# Altium schematic symbol library jlcpcb_resistors_basic.schlib: 256 symbols (part 2 of 5)
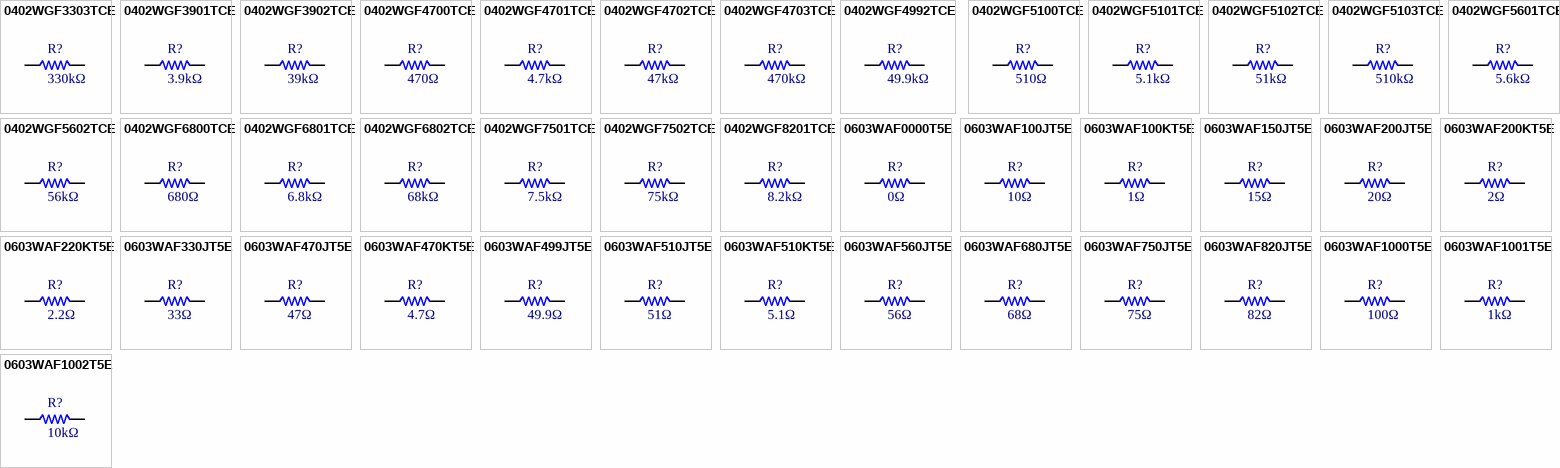
[diagram p7: symbols 0402WGF3303TCE to 0603WAF1002T5E]

## 0603WAF100JT5E
designator R?  Resistance: 10Ω  (hidden comment: *)
Resistor, 10Ω, ±1%, 100mW, 75V, ±400ppm/°C, -55°C to +155°C, SMD 0603; Manufacturer: Uniroyal; Manufacturer Part Number: 0603WAF100JT5E; Supplier 1: LCSC; Supplier Part Number 1: C22859; JLCPCB Part Number: C22859; Power Rating: 100mW; Category: Resistors; Package Size: 0603; JLCPCB Basic Part: Yes; Tolerance: ±1%; Voltage Rating: 75V; Temperature Coefficient: ±400ppm/°C; Temperature Rating: -55°C to +155°C; ComponentLink1Description: Datasheet; ComponentLink1URL: https://datasheet.lcsc.com/lcsc/2206010130_UNI-ROYAL-Uniroyal-Elec-0603WAF100JT5E_C22859.pdf; ComponentLink2Description: JLCPCB Part URL; ComponentLink2URL: https://jlcpcb.com/partdetail/23586-0603WAF100JT5E/C22859
footprint RES-0603 (0603 (1608M) Resistor)
pins: 1, 2

## 0603WAF100KT5E
designator R?  Resistance: 1Ω  (hidden comment: *)
Resistor, 1Ω, ±1%, 100mW, 75V, ±400ppm/°C, -55°C to +155°C, SMD 0603; Manufacturer: Uniroyal; Manufacturer Part Number: 0603WAF100KT5E; Supplier 1: LCSC; Supplier Part Number 1: C22936; JLCPCB Part Number: C22936; Power Rating: 100mW; Category: Resistors; Package Size: 0603; JLCPCB Basic Part: Yes; Tolerance: ±1%; Voltage Rating: 75V; Temperature Coefficient: ±400ppm/°C; Temperature Rating: -55°C to +155°C; ComponentLink1Description: Datasheet; ComponentLink1URL: https://datasheet.lcsc.com/lcsc/2206010130_UNI-ROYAL-Uniroyal-Elec-0603WAF100KT5E_C22936.pdf; ComponentLink2Description: JLCPCB Part URL; ComponentLink2URL: https://jlcpcb.com/partdetail/23663-0603WAF100KT5E/C22936
footprint RES-0603 (0603 (1608M) Resistor)
pins: 1, 2

## 0603WAF150JT5E
designator R?  Resistance: 15Ω  (hidden comment: *)
Resistor, 15Ω, ±1%, 100mW, 75V, ±100ppm/°C, -55°C to +155°C, SMD 0603; Manufacturer: Uniroyal; Manufacturer Part Number: 0603WAF150JT5E; Supplier 1: LCSC; Supplier Part Number 1: C22810; JLCPCB Part Number: C22810; Power Rating: 100mW; Category: Resistors; Package Size: 0603; JLCPCB Basic Part: Yes; Tolerance: ±1%; Voltage Rating: 75V; Temperature Coefficient: ±100ppm/°C; Temperature Rating: -55°C to +155°C; ComponentLink1Description: Datasheet; ComponentLink1URL: https://datasheet.lcsc.com/lcsc/2206010130_UNI-ROYAL-Uniroyal-Elec-0603WAF150JT5E_C22810.pdf; ComponentLink2Description: JLCPCB Part URL; ComponentLink2URL: https://jlcpcb.com/partdetail/23537-0603WAF150JT5E/C22810
footprint RES-0603 (0603 (1608M) Resistor)
pins: 1, 2

## 0603WAF200JT5E
designator R?  Resistance: 20Ω  (hidden comment: *)
Resistor, 20Ω, ±1%, 100mW, 75V, ±100ppm/°C, -55°C to +155°C, SMD 0603; Manufacturer: Uniroyal; Manufacturer Part Number: 0603WAF200JT5E; Supplier 1: LCSC; Supplier Part Number 1: C22950; JLCPCB Part Number: C22950; Power Rating: 100mW; Category: Resistors; Package Size: 0603; JLCPCB Basic Part: Yes; Tolerance: ±1%; Voltage Rating: 75V; Temperature Coefficient: ±100ppm/°C; Temperature Rating: -55°C to +155°C; ComponentLink1Description: Datasheet; ComponentLink1URL: https://datasheet.lcsc.com/lcsc/2206010130_UNI-ROYAL-Uniroyal-Elec-0603WAF200JT5E_C22950.pdf; ComponentLink2Description: JLCPCB Part URL; ComponentLink2URL: https://jlcpcb.com/partdetail/23677-0603WAF200JT5E/C22950
footprint RES-0603 (0603 (1608M) Resistor)
pins: 1, 2

## 0603WAF200KT5E
designator R?  Resistance: 2Ω  (hidden comment: *)
Resistor, 2Ω, ±1%, 100mW, 75V, ±400ppm/°C, -55°C to +155°C, SMD 0603; Manufacturer: Uniroyal; Manufacturer Part Number: 0603WAF200KT5E; Supplier 1: LCSC; Supplier Part Number 1: C22977; JLCPCB Part Number: C22977; Power Rating: 100mW; Category: Resistors; Package Size: 0603; JLCPCB Basic Part: Yes; Tolerance: ±1%; Voltage Rating: 75V; Temperature Coefficient: ±400ppm/°C; Temperature Rating: -55°C to +155°C; ComponentLink1Description: Datasheet; ComponentLink1URL: https://datasheet.lcsc.com/lcsc/2206010116_UNI-ROYAL-Uniroyal-Elec-0603WAF200KT5E_C22977.pdf; ComponentLink2Description: JLCPCB Part URL; ComponentLink2URL: https://jlcpcb.com/partdetail/23704-0603WAF200KT5E/C22977
footprint RES-0603 (0603 (1608M) Resistor)
pins: 1, 2

## 0603WAF220KT5E
designator R?  Resistance: 2.2Ω  (hidden comment: *)
Resistor, 2.2Ω, ±1%, 100mW, 75V, ±400ppm/°C, -55°C to +155°C, SMD 0603; Manufacturer: Uniroyal; Manufacturer Part Number: 0603WAF220KT5E; Supplier 1: LCSC; Supplier Part Number 1: C22939; JLCPCB Part Number: C22939; Power Rating: 100mW; Category: Resistors; Package Size: 0603; JLCPCB Basic Part: Yes; Tolerance: ±1%; Voltage Rating: 75V; Temperature Coefficient: ±400ppm/°C; Temperature Rating: -55°C to +155°C; ComponentLink1Description: Datasheet; ComponentLink1URL: https://datasheet.lcsc.com/lcsc/2206010130_UNI-ROYAL-Uniroyal-Elec-0603WAF220KT5E_C22939.pdf; ComponentLink2Description: JLCPCB Part URL; ComponentLink2URL: https://jlcpcb.com/partdetail/23666-0603WAF220KT5E/C22939
footprint RES-0603 (0603 (1608M) Resistor)
pins: 1, 2

## 0603WAF330JT5E
designator R?  Resistance: 33Ω  (hidden comment: *)
Resistor, 33Ω, ±1%, 100mW, 75V, ±100ppm/°C, -55°C to +155°C, SMD 0603; Manufacturer: Uniroyal; Manufacturer Part Number: 0603WAF330JT5E; Supplier 1: LCSC; Supplier Part Number 1: C23140; JLCPCB Part Number: C23140; Power Rating: 100mW; Category: Resistors; Package Size: 0603; JLCPCB Basic Part: Yes; Tolerance: ±1%; Voltage Rating: 75V; Temperature Coefficient: ±100ppm/°C; Temperature Rating: -55°C to +155°C; ComponentLink1Description: Datasheet; ComponentLink1URL: https://datasheet.lcsc.com/lcsc/2206010116_UNI-ROYAL-Uniroyal-Elec-0603WAF330JT5E_C23140.pdf; ComponentLink2Description: JLCPCB Part URL; ComponentLink2URL: https://jlcpcb.com/partdetail/23867-0603WAF330JT5E/C23140
footprint RES-0603 (0603 (1608M) Resistor)
pins: 1, 2

## 0603WAF470JT5E
designator R?  Resistance: 47Ω  (hidden comment: *)
Resistor, 47Ω, ±1%, 100mW, 75V, ±100ppm/°C, -55°C to +155°C, SMD 0603; Manufacturer: Uniroyal; Manufacturer Part Number: 0603WAF470JT5E; Supplier 1: LCSC; Supplier Part Number 1: C23182; JLCPCB Part Number: C23182; Power Rating: 100mW; Category: Resistors; Package Size: 0603; JLCPCB Basic Part: Yes; Tolerance: ±1%; Voltage Rating: 75V; Temperature Coefficient: ±100ppm/°C; Temperature Rating: -55°C to +155°C; ComponentLink1Description: Datasheet; ComponentLink1URL: https://datasheet.lcsc.com/lcsc/2206010116_UNI-ROYAL-Uniroyal-Elec-0603WAF470JT5E_C23182.pdf; ComponentLink2Description: JLCPCB Part URL; ComponentLink2URL: https://jlcpcb.com/partdetail/23909-0603WAF470JT5E/C23182
footprint RES-0603 (0603 (1608M) Resistor)
pins: 1, 2

## 0603WAF470KT5E
designator R?  Resistance: 4.7Ω  (hidden comment: *)
Resistor, 4.7Ω, ±1%, 100mW, 75V, ±400ppm/°C, -55°C to +155°C, SMD 0603; Manufacturer: Uniroyal; Manufacturer Part Number: 0603WAF470KT5E; Supplier 1: LCSC; Supplier Part Number 1: C23164; JLCPCB Part Number: C23164; Power Rating: 100mW; Category: Resistors; Package Size: 0603; JLCPCB Basic Part: Yes; Tolerance: ±1%; Voltage Rating: 75V; Temperature Coefficient: ±400ppm/°C; Temperature Rating: -55°C to +155°C; ComponentLink1Description: Datasheet; ComponentLink1URL: https://datasheet.lcsc.com/lcsc/2206010116_UNI-ROYAL-Uniroyal-Elec-0603WAF470KT5E_C23164.pdf; ComponentLink2Description: JLCPCB Part URL; ComponentLink2URL: https://jlcpcb.com/partdetail/23891-0603WAF470KT5E/C23164
footprint RES-0603 (0603 (1608M) Resistor)
pins: 1, 2

## 0603WAF499JT5E
designator R?  Resistance: 49.9Ω  (hidden comment: *)
Resistor, 49.9Ω, ±1%, 100mW, 75V, ±100ppm/°C, -55°C to +155°C, SMD 0603; Manufacturer: Uniroyal; Manufacturer Part Number: 0603WAF499JT5E; Supplier 1: LCSC; Supplier Part Number 1: C23185; JLCPCB Part Number: C23185; Power Rating: 100mW; Category: Resistors; Package Size: 0603; JLCPCB Basic Part: Yes; Tolerance: ±1%; Voltage Rating: 75V; Temperature Coefficient: ±100ppm/°C; Temperature Rating: -55°C to +155°C; ComponentLink1Description: Datasheet; ComponentLink1URL: https://datasheet.lcsc.com/lcsc/2206010116_UNI-ROYAL-Uniroyal-Elec-0603WAF499JT5E_C23185.pdf; ComponentLink2Description: JLCPCB Part URL; ComponentLink2URL: https://jlcpcb.com/partdetail/23912-0603WAF499JT5E/C23185
footprint RES-0603 (0603 (1608M) Resistor)
pins: 1, 2

## 0603WAF510JT5E
designator R?  Resistance: 51Ω  (hidden comment: *)
Resistor, 51Ω, ±1%, 100mW, 75V, ±100ppm/°C, -55°C to +155°C, SMD 0603; Manufacturer: Uniroyal; Manufacturer Part Number: 0603WAF510JT5E; Supplier 1: LCSC; Supplier Part Number 1: C23197; JLCPCB Part Number: C23197; Power Rating: 100mW; Category: Resistors; Package Size: 0603; JLCPCB Basic Part: Yes; Tolerance: ±1%; Voltage Rating: 75V; Temperature Coefficient: ±100ppm/°C; Temperature Rating: -55°C to +155°C; ComponentLink1Description: Datasheet; ComponentLink1URL: https://datasheet.lcsc.com/lcsc/2206010116_UNI-ROYAL-Uniroyal-Elec-0603WAF510JT5E_C23197.pdf; ComponentLink2Description: JLCPCB Part URL; ComponentLink2URL: https://jlcpcb.com/partdetail/23924-0603WAF510JT5E/C23197
footprint RES-0603 (0603 (1608M) Resistor)
pins: 1, 2

## 0603WAF510KT5E
designator R?  Resistance: 5.1Ω  (hidden comment: *)
Resistor, 5.1Ω, ±1%, 100mW, 75V, ±200ppm/°C, -55°C to +155°C, SMD 0603; Manufacturer: Uniroyal; Manufacturer Part Number: 0603WAF510KT5E; Supplier 1: LCSC; Supplier Part Number 1: C25197; JLCPCB Part Number: C25197; Power Rating: 100mW; Category: Resistors; Package Size: 0603; JLCPCB Basic Part: Yes; Tolerance: ±1%; Voltage Rating: 75V; Temperature Coefficient: ±200ppm/°C; Temperature Rating: -55°C to +155°C; ComponentLink1Description: Datasheet; ComponentLink1URL: https://datasheet.lcsc.com/lcsc/2205311845_UNI-ROYAL-Uniroyal-Elec-0603WAF510KT5E_C25197.pdf; ComponentLink2Description: JLCPCB Part URL; ComponentLink2URL: https://jlcpcb.com/partdetail/25940-0603WAF510KT5E/C25197
footprint RES-0603 (0603 (1608M) Resistor)
pins: 1, 2

## 0603WAF560JT5E
designator R?  Resistance: 56Ω  (hidden comment: *)
Resistor, 56Ω, ±1%, 100mW, 75V, ±200ppm/°C, -55°C to +155°C, SMD 0603; Manufacturer: Uniroyal; Manufacturer Part Number: 0603WAF560JT5E; Supplier 1: LCSC; Supplier Part Number 1: C25196; JLCPCB Part Number: C25196; Power Rating: 100mW; Category: Resistors; Package Size: 0603; JLCPCB Basic Part: Yes; Tolerance: ±1%; Voltage Rating: 75V; Temperature Coefficient: ±200ppm/°C; Temperature Rating: -55°C to +155°C; ComponentLink1Description: Datasheet; ComponentLink1URL: https://datasheet.lcsc.com/lcsc/2205311845_UNI-ROYAL-Uniroyal-Elec-0603WAF560JT5E_C25196.pdf; ComponentLink2Description: JLCPCB Part URL; ComponentLink2URL: https://jlcpcb.com/partdetail/25939-0603WAF560JT5E/C25196
footprint RES-0603 (0603 (1608M) Resistor)
pins: 1, 2

## 0603WAF680JT5E
designator R?  Resistance: 68Ω  (hidden comment: *)
Resistor, 68Ω, ±1%, 100mW, 75V, ±100ppm/°C, -55°C to +155°C, SMD 0603; Manufacturer: Uniroyal; Manufacturer Part Number: 0603WAF680JT5E; Supplier 1: LCSC; Supplier Part Number 1: C27592; JLCPCB Part Number: C27592; Power Rating: 100mW; Category: Resistors; Package Size: 0603; JLCPCB Basic Part: Yes; Tolerance: ±1%; Voltage Rating: 75V; Temperature Coefficient: ±100ppm/°C; Temperature Rating: -55°C to +155°C; ComponentLink1Description: Datasheet; ComponentLink1URL: https://datasheet.lcsc.com/lcsc/2206010030_UNI-ROYAL-Uniroyal-Elec-0603WAF680JT5E_C27592.pdf; ComponentLink2Description: JLCPCB Part URL; ComponentLink2URL: https://jlcpcb.com/partdetail/28341-0603WAF680JT5E/C27592
footprint RES-0603 (0603 (1608M) Resistor)
pins: 1, 2

## 0603WAF750JT5E
designator R?  Resistance: 75Ω  (hidden comment: *)
Resistor, 75Ω, ±1%, 100mW, 75V, ±200ppm/°C, -55°C to +155°C, SMD 0603; Manufacturer: Uniroyal; Manufacturer Part Number: 0603WAF750JT5E; Supplier 1: LCSC; Supplier Part Number 1: C4275; JLCPCB Part Number: C4275; Power Rating: 100mW; Category: Resistors; Package Size: 0603; JLCPCB Basic Part: Yes; Tolerance: ±1%; Voltage Rating: 75V; Temperature Coefficient: ±200ppm/°C; Temperature Rating: -55°C to +155°C; ComponentLink1Description: Datasheet; ComponentLink1URL: https://datasheet.lcsc.com/lcsc/2206010216_UNI-ROYAL-Uniroyal-Elec-0603WAF750JT5E_C4275.pdf; ComponentLink2Description: JLCPCB Part URL; ComponentLink2URL: https://jlcpcb.com/partdetail/4682-0603WAF750JT5E/C4275
footprint RES-0603 (0603 (1608M) Resistor)
pins: 1, 2

## 0603WAF820JT5E
designator R?  Resistance: 82Ω  (hidden comment: *)
Resistor, 82Ω, ±1%, 100mW, 75V, ±100ppm/°C, -55°C to +155°C, SMD 0603; Manufacturer: Uniroyal; Manufacturer Part Number: 0603WAF820JT5E; Supplier 1: LCSC; Supplier Part Number 1: C23255; JLCPCB Part Number: C23255; Power Rating: 100mW; Category: Resistors; Package Size: 0603; JLCPCB Basic Part: Yes; Tolerance: ±1%; Voltage Rating: 75V; Temperature Coefficient: ±100ppm/°C; Temperature Rating: -55°C to +155°C; ComponentLink1Description: Datasheet; ComponentLink1URL: https://datasheet.lcsc.com/lcsc/2206010100_UNI-ROYAL-Uniroyal-Elec-0603WAF820JT5E_C23255.pdf; ComponentLink2Description: JLCPCB Part URL; ComponentLink2URL: https://jlcpcb.com/partdetail/23982-0603WAF820JT5E/C23255
footprint RES-0603 (0603 (1608M) Resistor)
pins: 1, 2

## 0603WAF1000T5E
designator R?  Resistance: 100Ω  (hidden comment: *)
Resistor, 100Ω, ±1%, 100mW, 75V, ±200ppm/°C, -55°C to +155°C, SMD 0603; Manufacturer: Uniroyal; Manufacturer Part Number: 0603WAF1000T5E; Supplier 1: LCSC; Supplier Part Number 1: C22775; JLCPCB Part Number: C22775; Power Rating: 100mW; Category: Resistors; Package Size: 0603; JLCPCB Basic Part: Yes; Tolerance: ±1%; Voltage Rating: 75V; Temperature Coefficient: ±200ppm/°C; Temperature Rating: -55°C to +155°C; ComponentLink1Description: Datasheet; ComponentLink1URL: https://datasheet.lcsc.com/lcsc/2206010130_UNI-ROYAL-Uniroyal-Elec-0603WAF1000T5E_C22775.pdf; ComponentLink2Description: JLCPCB Part URL; ComponentLink2URL: https://jlcpcb.com/partdetail/23502-0603WAF1000T5E/C22775
footprint RES-0603 (0603 (1608M) Resistor)
pins: 1, 2

## 0603WAF1001T5E
designator R?  Resistance: 1kΩ  (hidden comment: *)
Resistor, 1kΩ, ±1%, 100mW, 75V, ±100ppm/°C, -55°C to +155°C, SMD 0603; Manufacturer: Uniroyal; Manufacturer Part Number: 0603WAF1001T5E; Supplier 1: LCSC; Supplier Part Number 1: C21190; JLCPCB Part Number: C21190; Power Rating: 100mW; Category: Resistors; Package Size: 0603; JLCPCB Basic Part: Yes; Tolerance: ±1%; Voltage Rating: 75V; Temperature Coefficient: ±100ppm/°C; Temperature Rating: -55°C to +155°C; ComponentLink1Description: Datasheet; ComponentLink1URL: https://datasheet.lcsc.com/lcsc/2206010130_UNI-ROYAL-Uniroyal-Elec-0603WAF1001T5E_C21190.pdf; ComponentLink2Description: JLCPCB Part URL; ComponentLink2URL: https://jlcpcb.com/partdetail/21904-0603WAF1001T5E/C21190
footprint RES-0603 (0603 (1608M) Resistor)
pins: 1, 2

## 0603WAF1002T5E
designator R?  Resistance: 10kΩ  (hidden comment: *)
Resistor, 10kΩ, ±1%, 100mW, 75V, ±100ppm/°C, -55°C to +155°C, SMD 0603; Manufacturer: Uniroyal; Manufacturer Part Number: 0603WAF1002T5E; Supplier 1: LCSC; Supplier Part Number 1: C25804; JLCPCB Part Number: C25804; Power Rating: 100mW; Category: Resistors; Package Size: 0603; JLCPCB Basic Part: Yes; Tolerance: ±1%; Voltage Rating: 75V; Temperature Coefficient: ±100ppm/°C; Temperature Rating: -55°C to +155°C; ComponentLink1Description: Datasheet; ComponentLink1URL: https://datasheet.lcsc.com/lcsc/2206010045_UNI-ROYAL-Uniroyal-Elec-0603WAF1002T5E_C25804.pdf; ComponentLink2Description: JLCPCB Part URL; ComponentLink2URL: https://jlcpcb.com/partdetail/26547-0603WAF1002T5E/C25804
footprint RES-0603 (0603 (1608M) Resistor)
pins: 1, 2

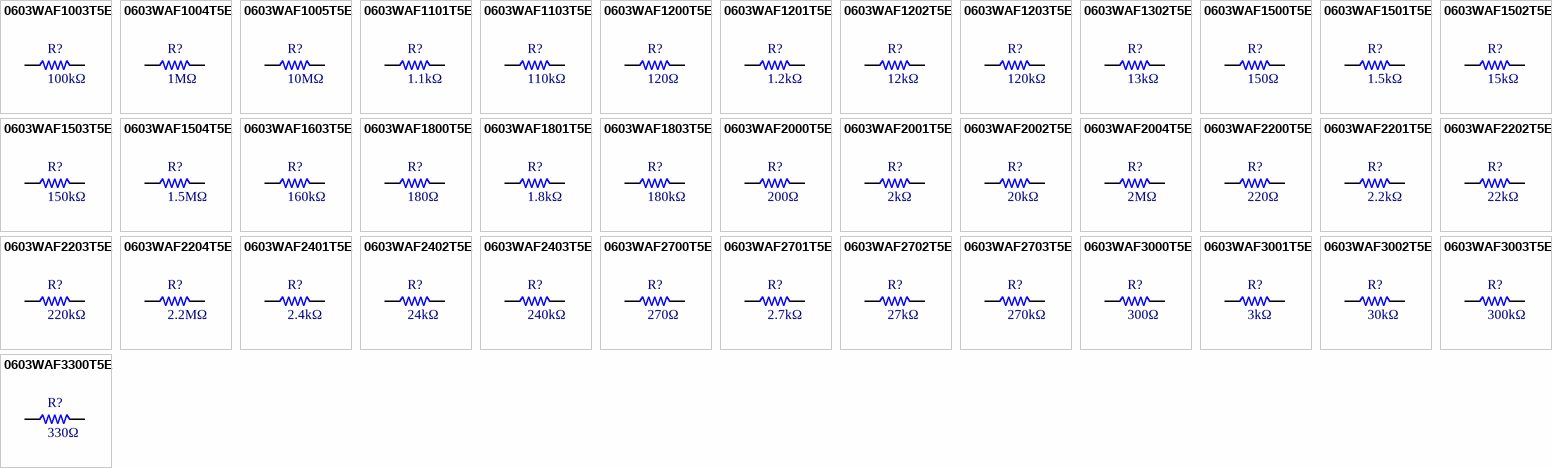
[diagram p2: symbols 0603WAF1003T5E to 0603WAF3300T5E]

## 0603WAF1003T5E
designator R?  Resistance: 100kΩ  (hidden comment: *)
Resistor, 100kΩ, ±1%, 100mW, 75V, ±100ppm/°C, -55°C to +155°C, SMD 0603; Manufacturer: Uniroyal; Manufacturer Part Number: 0603WAF1003T5E; Supplier 1: LCSC; Supplier Part Number 1: C25803; JLCPCB Part Number: C25803; Power Rating: 100mW; Category: Resistors; Package Size: 0603; JLCPCB Basic Part: Yes; Tolerance: ±1%; Voltage Rating: 75V; Temperature Coefficient: ±100ppm/°C; Temperature Rating: -55°C to +155°C; ComponentLink1Description: Datasheet; ComponentLink1URL: https://datasheet.lcsc.com/lcsc/2206010045_UNI-ROYAL-Uniroyal-Elec-0603WAF1003T5E_C25803.pdf; ComponentLink2Description: JLCPCB Part URL; ComponentLink2URL: https://jlcpcb.com/partdetail/26546-0603WAF1003T5E/C25803
footprint RES-0603 (0603 (1608M) Resistor)
pins: 1, 2

## 0603WAF1004T5E
designator R?  Resistance: 1MΩ  (hidden comment: *)
Resistor, 1MΩ, ±1%, 100mW, 75V, ±100ppm/°C, -55°C to +155°C, SMD 0603; Manufacturer: Uniroyal; Manufacturer Part Number: 0603WAF1004T5E; Supplier 1: LCSC; Supplier Part Number 1: C22935; JLCPCB Part Number: C22935; Power Rating: 100mW; Category: Resistors; Package Size: 0603; JLCPCB Basic Part: Yes; Tolerance: ±1%; Voltage Rating: 75V; Temperature Coefficient: ±100ppm/°C; Temperature Rating: -55°C to +155°C; ComponentLink1Description: Datasheet; ComponentLink1URL: https://datasheet.lcsc.com/lcsc/2206010130_UNI-ROYAL-Uniroyal-Elec-0603WAF1004T5E_C22935.pdf; ComponentLink2Description: JLCPCB Part URL; ComponentLink2URL: https://jlcpcb.com/partdetail/23662-0603WAF1004T5E/C22935
footprint RES-0603 (0603 (1608M) Resistor)
pins: 1, 2

## 0603WAF1005T5E
designator R?  Resistance: 10MΩ  (hidden comment: *)
Resistor, 10MΩ, ±1%, 100mW, 75V, ±100ppm/°C, -55°C to +155°C, SMD 0603; Manufacturer: Uniroyal; Manufacturer Part Number: 0603WAF1005T5E; Supplier 1: LCSC; Supplier Part Number 1: C7250; JLCPCB Part Number: C7250; Power Rating: 100mW; Category: Resistors; Package Size: 0603; JLCPCB Basic Part: Yes; Tolerance: ±1%; Voltage Rating: 75V; Temperature Coefficient: ±100ppm/°C; Temperature Rating: -55°C to +155°C; ComponentLink1Description: Datasheet; ComponentLink1URL: https://datasheet.lcsc.com/lcsc/2206010216_UNI-ROYAL-Uniroyal-Elec-0603WAF1005T5E_C7250.pdf; ComponentLink2Description: JLCPCB Part URL; ComponentLink2URL: https://jlcpcb.com/partdetail/7726-0603WAF1005T5E/C7250
footprint RES-0603 (0603 (1608M) Resistor)
pins: 1, 2

## 0603WAF1101T5E
designator R?  Resistance: 1.1kΩ  (hidden comment: *)
Resistor, 1.1kΩ, ±1%, 100mW, 75V, ±100ppm/°C, -55°C to +155°C, SMD 0603; Manufacturer: Uniroyal; Manufacturer Part Number: 0603WAF1101T5E; Supplier 1: LCSC; Supplier Part Number 1: C22764; JLCPCB Part Number: C22764; Power Rating: 100mW; Category: Resistors; Package Size: 0603; JLCPCB Basic Part: Yes; Tolerance: ±1%; Voltage Rating: 75V; Temperature Coefficient: ±100ppm/°C; Temperature Rating: -55°C to +155°C; ComponentLink1Description: Datasheet; ComponentLink1URL: https://datasheet.lcsc.com/lcsc/2206010130_UNI-ROYAL-Uniroyal-Elec-0603WAF1101T5E_C22764.pdf; ComponentLink2Description: JLCPCB Part URL; ComponentLink2URL: https://jlcpcb.com/partdetail/23491-0603WAF1101T5E/C22764
footprint RES-0603 (0603 (1608M) Resistor)
pins: 1, 2

## 0603WAF1103T5E
designator R?  Resistance: 110kΩ  (hidden comment: *)
Resistor, 110kΩ, ±1%, 100mW, 75V, ±100ppm/°C, -55°C to +155°C, SMD 0603; Manufacturer: Uniroyal; Manufacturer Part Number: 0603WAF1103T5E; Supplier 1: LCSC; Supplier Part Number 1: C25805; JLCPCB Part Number: C25805; Power Rating: 100mW; Category: Resistors; Package Size: 0603; JLCPCB Basic Part: Yes; Tolerance: ±1%; Voltage Rating: 75V; Temperature Coefficient: ±100ppm/°C; Temperature Rating: -55°C to +155°C; ComponentLink1Description: Datasheet; ComponentLink1URL: https://datasheet.lcsc.com/lcsc/2206010045_UNI-ROYAL-Uniroyal-Elec-0603WAF1103T5E_C25805.pdf; ComponentLink2Description: JLCPCB Part URL; ComponentLink2URL: https://jlcpcb.com/partdetail/26548-0603WAF1103T5E/C25805
footprint RES-0603 (0603 (1608M) Resistor)
pins: 1, 2

## 0603WAF1200T5E
designator R?  Resistance: 120Ω  (hidden comment: *)
Resistor, 120Ω, ±1%, 100mW, 75V, ±100ppm/°C, -55°C to +155°C, SMD 0603; Manufacturer: Uniroyal; Manufacturer Part Number: 0603WAF1200T5E; Supplier 1: LCSC; Supplier Part Number 1: C22787; JLCPCB Part Number: C22787; Power Rating: 100mW; Category: Resistors; Package Size: 0603; JLCPCB Basic Part: Yes; Tolerance: ±1%; Voltage Rating: 75V; Temperature Coefficient: ±100ppm/°C; Temperature Rating: -55°C to +155°C; ComponentLink1Description: Datasheet; ComponentLink1URL: https://datasheet.lcsc.com/lcsc/2206010130_UNI-ROYAL-Uniroyal-Elec-0603WAF1200T5E_C22787.pdf; ComponentLink2Description: JLCPCB Part URL; ComponentLink2URL: https://jlcpcb.com/partdetail/23514-0603WAF1200T5E/C22787
footprint RES-0603 (0603 (1608M) Resistor)
pins: 1, 2

## 0603WAF1201T5E
designator R?  Resistance: 1.2kΩ  (hidden comment: *)
Resistor, 1.2kΩ, ±1%, 100mW, 75V, ±100ppm/°C, -55°C to +155°C, SMD 0603; Manufacturer: Uniroyal; Manufacturer Part Number: 0603WAF1201T5E; Supplier 1: LCSC; Supplier Part Number 1: C22765; JLCPCB Part Number: C22765; Power Rating: 100mW; Category: Resistors; Package Size: 0603; JLCPCB Basic Part: Yes; Tolerance: ±1%; Voltage Rating: 75V; Temperature Coefficient: ±100ppm/°C; Temperature Rating: -55°C to +155°C; ComponentLink1Description: Datasheet; ComponentLink1URL: https://datasheet.lcsc.com/lcsc/2206010130_UNI-ROYAL-Uniroyal-Elec-0603WAF1201T5E_C22765.pdf; ComponentLink2Description: JLCPCB Part URL; ComponentLink2URL: https://jlcpcb.com/partdetail/23492-0603WAF1201T5E/C22765
footprint RES-0603 (0603 (1608M) Resistor)
pins: 1, 2

## 0603WAF1202T5E
designator R?  Resistance: 12kΩ  (hidden comment: *)
Resistor, 12kΩ, ±1%, 100mW, 75V, ±100ppm/°C, -55°C to +155°C, SMD 0603; Manufacturer: Uniroyal; Manufacturer Part Number: 0603WAF1202T5E; Supplier 1: LCSC; Supplier Part Number 1: C22790; JLCPCB Part Number: C22790; Power Rating: 100mW; Category: Resistors; Package Size: 0603; JLCPCB Basic Part: Yes; Tolerance: ±1%; Voltage Rating: 75V; Temperature Coefficient: ±100ppm/°C; Temperature Rating: -55°C to +155°C; ComponentLink1Description: Datasheet; ComponentLink1URL: https://datasheet.lcsc.com/lcsc/2206010130_UNI-ROYAL-Uniroyal-Elec-0603WAF1202T5E_C22790.pdf; ComponentLink2Description: JLCPCB Part URL; ComponentLink2URL: https://jlcpcb.com/partdetail/23517-0603WAF1202T5E/C22790
footprint RES-0603 (0603 (1608M) Resistor)
pins: 1, 2

## 0603WAF1203T5E
designator R?  Resistance: 120kΩ  (hidden comment: *)
Resistor, 120kΩ, ±1%, 100mW, 75V, ±100ppm/°C, -55°C to +155°C, SMD 0603; Manufacturer: Uniroyal; Manufacturer Part Number: 0603WAF1203T5E; Supplier 1: LCSC; Supplier Part Number 1: C25808; JLCPCB Part Number: C25808; Power Rating: 100mW; Category: Resistors; Package Size: 0603; JLCPCB Basic Part: Yes; Tolerance: ±1%; Voltage Rating: 75V; Temperature Coefficient: ±100ppm/°C; Temperature Rating: -55°C to +155°C; ComponentLink1Description: Datasheet; ComponentLink1URL: https://datasheet.lcsc.com/lcsc/2206010045_UNI-ROYAL-Uniroyal-Elec-0603WAF1203T5E_C25808.pdf; ComponentLink2Description: JLCPCB Part URL; ComponentLink2URL: https://jlcpcb.com/partdetail/26551-0603WAF1203T5E/C25808
footprint RES-0603 (0603 (1608M) Resistor)
pins: 1, 2

## 0603WAF1302T5E
designator R?  Resistance: 13kΩ  (hidden comment: *)
Resistor, 13kΩ, ±1%, 100mW, 75V, ±100ppm/°C, -55°C to +155°C, SMD 0603; Manufacturer: Uniroyal; Manufacturer Part Number: 0603WAF1302T5E; Supplier 1: LCSC; Supplier Part Number 1: C22797; JLCPCB Part Number: C22797; Power Rating: 100mW; Category: Resistors; Package Size: 0603; JLCPCB Basic Part: Yes; Tolerance: ±1%; Voltage Rating: 75V; Temperature Coefficient: ±100ppm/°C; Temperature Rating: -55°C to +155°C; ComponentLink1Description: Datasheet; ComponentLink1URL: https://datasheet.lcsc.com/lcsc/2206010130_UNI-ROYAL-Uniroyal-Elec-0603WAF1302T5E_C22797.pdf; ComponentLink2Description: JLCPCB Part URL; ComponentLink2URL: https://jlcpcb.com/partdetail/23524-0603WAF1302T5E/C22797
footprint RES-0603 (0603 (1608M) Resistor)
pins: 1, 2

## 0603WAF1500T5E
designator R?  Resistance: 150Ω  (hidden comment: *)
Resistor, 150Ω, ±1%, 100mW, 75V, ±100ppm/°C, -55°C to +155°C, SMD 0603; Manufacturer: Uniroyal; Manufacturer Part Number: 0603WAF1500T5E; Supplier 1: LCSC; Supplier Part Number 1: C22808; JLCPCB Part Number: C22808; Power Rating: 100mW; Category: Resistors; Package Size: 0603; JLCPCB Basic Part: Yes; Tolerance: ±1%; Voltage Rating: 75V; Temperature Coefficient: ±100ppm/°C; Temperature Rating: -55°C to +155°C; ComponentLink1Description: Datasheet; ComponentLink1URL: https://datasheet.lcsc.com/lcsc/2206010130_UNI-ROYAL-Uniroyal-Elec-0603WAF1500T5E_C22808.pdf; ComponentLink2Description: JLCPCB Part URL; ComponentLink2URL: https://jlcpcb.com/partdetail/23535-0603WAF1500T5E/C22808
footprint RES-0603 (0603 (1608M) Resistor)
pins: 1, 2

## 0603WAF1501T5E
designator R?  Resistance: 1.5kΩ  (hidden comment: *)
Resistor, 1.5kΩ, ±1%, 100mW, 75V, ±100ppm/°C, -55°C to +155°C, SMD 0603; Manufacturer: Uniroyal; Manufacturer Part Number: 0603WAF1501T5E; Supplier 1: LCSC; Supplier Part Number 1: C22843; JLCPCB Part Number: C22843; Power Rating: 100mW; Category: Resistors; Package Size: 0603; JLCPCB Basic Part: Yes; Tolerance: ±1%; Voltage Rating: 75V; Temperature Coefficient: ±100ppm/°C; Temperature Rating: -55°C to +155°C; ComponentLink1Description: Datasheet; ComponentLink1URL: https://datasheet.lcsc.com/lcsc/2206010130_UNI-ROYAL-Uniroyal-Elec-0603WAF1501T5E_C22843.pdf; ComponentLink2Description: JLCPCB Part URL; ComponentLink2URL: https://jlcpcb.com/partdetail/23570-0603WAF1501T5E/C22843
footprint RES-0603 (0603 (1608M) Resistor)
pins: 1, 2

## 0603WAF1502T5E
designator R?  Resistance: 15kΩ  (hidden comment: *)
Resistor, 15kΩ, ±1%, 100mW, 75V, ±100ppm/°C, -55°C to +155°C, SMD 0603; Manufacturer: Uniroyal; Manufacturer Part Number: 0603WAF1502T5E; Supplier 1: LCSC; Supplier Part Number 1: C22809; JLCPCB Part Number: C22809; Power Rating: 100mW; Category: Resistors; Package Size: 0603; JLCPCB Basic Part: Yes; Tolerance: ±1%; Voltage Rating: 75V; Temperature Coefficient: ±100ppm/°C; Temperature Rating: -55°C to +155°C; ComponentLink1Description: Datasheet; ComponentLink1URL: https://datasheet.lcsc.com/lcsc/2206010130_UNI-ROYAL-Uniroyal-Elec-0603WAF1502T5E_C22809.pdf; ComponentLink2Description: JLCPCB Part URL; ComponentLink2URL: https://jlcpcb.com/partdetail/23536-0603WAF1502T5E/C22809
footprint RES-0603 (0603 (1608M) Resistor)
pins: 1, 2

## 0603WAF1503T5E
designator R?  Resistance: 150kΩ  (hidden comment: *)
Resistor, 150kΩ, ±1%, 100mW, 75V, ±100ppm/°C, -55°C to +155°C, SMD 0603; Manufacturer: Uniroyal; Manufacturer Part Number: 0603WAF1503T5E; Supplier 1: LCSC; Supplier Part Number 1: C22807; JLCPCB Part Number: C22807; Power Rating: 100mW; Category: Resistors; Package Size: 0603; JLCPCB Basic Part: Yes; Tolerance: ±1%; Voltage Rating: 75V; Temperature Coefficient: ±100ppm/°C; Temperature Rating: -55°C to +155°C; ComponentLink1Description: Datasheet; ComponentLink1URL: https://datasheet.lcsc.com/lcsc/2206010130_UNI-ROYAL-Uniroyal-Elec-0603WAF1503T5E_C22807.pdf; ComponentLink2Description: JLCPCB Part URL; ComponentLink2URL: https://jlcpcb.com/partdetail/23534-0603WAF1503T5E/C22807
footprint RES-0603 (0603 (1608M) Resistor)
pins: 1, 2

## 0603WAF1504T5E
designator R?  Resistance: 1.5MΩ  (hidden comment: *)
Resistor, 1.5MΩ, ±1%, 100mW, 75V, ±100ppm/°C, -55°C to +155°C, SMD 0603; Manufacturer: Uniroyal; Manufacturer Part Number: 0603WAF1504T5E; Supplier 1: LCSC; Supplier Part Number 1: C4172; JLCPCB Part Number: C4172; Power Rating: 100mW; Category: Resistors; Package Size: 0603; JLCPCB Basic Part: Yes; Tolerance: ±1%; Voltage Rating: 75V; Temperature Coefficient: ±100ppm/°C; Temperature Rating: -55°C to +155°C; ComponentLink1Description: Datasheet; ComponentLink1URL: https://datasheet.lcsc.com/lcsc/2206010230_UNI-ROYAL-Uniroyal-Elec-0603WAF1504T5E_C4172.pdf; ComponentLink2Description: JLCPCB Part URL; ComponentLink2URL: https://jlcpcb.com/partdetail/4579-0603WAF1504T5E/C4172
footprint RES-0603 (0603 (1608M) Resistor)
pins: 1, 2

## 0603WAF1603T5E
designator R?  Resistance: 160kΩ  (hidden comment: *)
Resistor, 160kΩ, ±1%, 100mW, 75V, ±100ppm/°C, -55°C to +155°C, SMD 0603; Manufacturer: Uniroyal; Manufacturer Part Number: 0603WAF1603T5E; Supplier 1: LCSC; Supplier Part Number 1: C22813; JLCPCB Part Number: C22813; Power Rating: 100mW; Category: Resistors; Package Size: 0603; JLCPCB Basic Part: Yes; Tolerance: ±1%; Voltage Rating: 75V; Temperature Coefficient: ±100ppm/°C; Temperature Rating: -55°C to +155°C; ComponentLink1Description: Datasheet; ComponentLink1URL: https://datasheet.lcsc.com/lcsc/2206010130_UNI-ROYAL-Uniroyal-Elec-0603WAF1603T5E_C22813.pdf; ComponentLink2Description: JLCPCB Part URL; ComponentLink2URL: https://jlcpcb.com/partdetail/23540-0603WAF1603T5E/C22813
footprint RES-0603 (0603 (1608M) Resistor)
pins: 1, 2

## 0603WAF1800T5E
designator R?  Resistance: 180Ω  (hidden comment: *)
Resistor, 180Ω, ±1%, 100mW, 75V, ±100ppm/°C, -55°C to +155°C, SMD 0603; Manufacturer: Uniroyal; Manufacturer Part Number: 0603WAF1800T5E; Supplier 1: LCSC; Supplier Part Number 1: C22828; JLCPCB Part Number: C22828; Power Rating: 100mW; Category: Resistors; Package Size: 0603; JLCPCB Basic Part: Yes; Tolerance: ±1%; Voltage Rating: 75V; Temperature Coefficient: ±100ppm/°C; Temperature Rating: -55°C to +155°C; ComponentLink1Description: Datasheet; ComponentLink1URL: https://datasheet.lcsc.com/lcsc/2206010130_UNI-ROYAL-Uniroyal-Elec-0603WAF1800T5E_C22828.pdf; ComponentLink2Description: JLCPCB Part URL; ComponentLink2URL: https://jlcpcb.com/partdetail/23555-0603WAF1800T5E/C22828
footprint RES-0603 (0603 (1608M) Resistor)
pins: 1, 2

## 0603WAF1801T5E
designator R?  Resistance: 1.8kΩ  (hidden comment: *)
Resistor, 1.8kΩ, ±1%, 100mW, 75V, ±100ppm/°C, -55°C to +155°C, SMD 0603; Manufacturer: Uniroyal; Manufacturer Part Number: 0603WAF1801T5E; Supplier 1: LCSC; Supplier Part Number 1: C4177; JLCPCB Part Number: C4177; Power Rating: 100mW; Category: Resistors; Package Size: 0603; JLCPCB Basic Part: Yes; Tolerance: ±1%; Voltage Rating: 75V; Temperature Coefficient: ±100ppm/°C; Temperature Rating: -55°C to +155°C; ComponentLink1Description: Datasheet; ComponentLink1URL: https://datasheet.lcsc.com/lcsc/2206010230_UNI-ROYAL-Uniroyal-Elec-0603WAF1801T5E_C4177.pdf; ComponentLink2Description: JLCPCB Part URL; ComponentLink2URL: https://jlcpcb.com/partdetail/4584-0603WAF1801T5E/C4177
footprint RES-0603 (0603 (1608M) Resistor)
pins: 1, 2

## 0603WAF1803T5E
designator R?  Resistance: 180kΩ  (hidden comment: *)
Resistor, 180kΩ, ±1%, 100mW, 75V, ±100ppm/°C, -55°C to +155°C, SMD 0603; Manufacturer: Uniroyal; Manufacturer Part Number: 0603WAF1803T5E; Supplier 1: LCSC; Supplier Part Number 1: C22827; JLCPCB Part Number: C22827; Power Rating: 100mW; Category: Resistors; Package Size: 0603; JLCPCB Basic Part: Yes; Tolerance: ±1%; Voltage Rating: 75V; Temperature Coefficient: ±100ppm/°C; Temperature Rating: -55°C to +155°C; ComponentLink1Description: Datasheet; ComponentLink1URL: https://datasheet.lcsc.com/lcsc/2206010130_UNI-ROYAL-Uniroyal-Elec-0603WAF1803T5E_C22827.pdf; ComponentLink2Description: JLCPCB Part URL; ComponentLink2URL: https://jlcpcb.com/partdetail/23554-0603WAF1803T5E/C22827
footprint RES-0603 (0603 (1608M) Resistor)
pins: 1, 2

## 0603WAF2000T5E
designator R?  Resistance: 200Ω  (hidden comment: *)
Resistor, 200Ω, ±1%, 100mW, 75V, ±100ppm/°C, -55°C to +155°C, SMD 0603; Manufacturer: Uniroyal; Manufacturer Part Number: 0603WAF2000T5E; Supplier 1: LCSC; Supplier Part Number 1: C8218; JLCPCB Part Number: C8218; Power Rating: 100mW; Category: Resistors; Package Size: 0603; JLCPCB Basic Part: Yes; Tolerance: ±1%; Voltage Rating: 75V; Temperature Coefficient: ±100ppm/°C; Temperature Rating: -55°C to +155°C; ComponentLink1Description: Datasheet; ComponentLink1URL: https://datasheet.lcsc.com/lcsc/2206010216_UNI-ROYAL-Uniroyal-Elec-0603WAF2000T5E_C8218.pdf; ComponentLink2Description: JLCPCB Part URL; ComponentLink2URL: https://jlcpcb.com/partdetail/8708-0603WAF2000T5E/C8218
footprint RES-0603 (0603 (1608M) Resistor)
pins: 1, 2

## 0603WAF2001T5E
designator R?  Resistance: 2kΩ  (hidden comment: *)
Resistor, 2kΩ, ±1%, 100mW, 75V, ±100ppm/°C, -55°C to +155°C, SMD 0603; Manufacturer: Uniroyal; Manufacturer Part Number: 0603WAF2001T5E; Supplier 1: LCSC; Supplier Part Number 1: C22975; JLCPCB Part Number: C22975; Power Rating: 100mW; Category: Resistors; Package Size: 0603; JLCPCB Basic Part: Yes; Tolerance: ±1%; Voltage Rating: 75V; Temperature Coefficient: ±100ppm/°C; Temperature Rating: -55°C to +155°C; ComponentLink1Description: Datasheet; ComponentLink1URL: https://datasheet.lcsc.com/lcsc/2206010116_UNI-ROYAL-Uniroyal-Elec-0603WAF2001T5E_C22975.pdf; ComponentLink2Description: JLCPCB Part URL; ComponentLink2URL: https://jlcpcb.com/partdetail/23702-0603WAF2001T5E/C22975
footprint RES-0603 (0603 (1608M) Resistor)
pins: 1, 2

## 0603WAF2002T5E
designator R?  Resistance: 20kΩ  (hidden comment: *)
Resistor, 20kΩ, ±1%, 100mW, 75V, ±100ppm/°C, -55°C to +155°C, SMD 0603; Manufacturer: Uniroyal; Manufacturer Part Number: 0603WAF2002T5E; Supplier 1: LCSC; Supplier Part Number 1: C4184; JLCPCB Part Number: C4184; Power Rating: 100mW; Category: Resistors; Package Size: 0603; JLCPCB Basic Part: Yes; Tolerance: ±1%; Voltage Rating: 75V; Temperature Coefficient: ±100ppm/°C; Temperature Rating: -55°C to +155°C; ComponentLink1Description: Datasheet; ComponentLink1URL: https://datasheet.lcsc.com/lcsc/2206010230_UNI-ROYAL-Uniroyal-Elec-0603WAF2002T5E_C4184.pdf; ComponentLink2Description: JLCPCB Part URL; ComponentLink2URL: https://jlcpcb.com/partdetail/4591-0603WAF2002T5E/C4184
footprint RES-0603 (0603 (1608M) Resistor)
pins: 1, 2

## 0603WAF2004T5E
designator R?  Resistance: 2MΩ  (hidden comment: *)
Resistor, 2MΩ, ±1%, 100mW, 75V, ±100ppm/°C, -55°C to +155°C, SMD 0603; Manufacturer: Uniroyal; Manufacturer Part Number: 0603WAF2004T5E; Supplier 1: LCSC; Supplier Part Number 1: C22976; JLCPCB Part Number: C22976; Power Rating: 100mW; Category: Resistors; Package Size: 0603; JLCPCB Basic Part: Yes; Tolerance: ±1%; Voltage Rating: 75V; Temperature Coefficient: ±100ppm/°C; Temperature Rating: -55°C to +155°C; ComponentLink1Description: Datasheet; ComponentLink1URL: https://datasheet.lcsc.com/lcsc/2206010116_UNI-ROYAL-Uniroyal-Elec-0603WAF2004T5E_C22976.pdf; ComponentLink2Description: JLCPCB Part URL; ComponentLink2URL: https://jlcpcb.com/partdetail/23703-0603WAF2004T5E/C22976
footprint RES-0603 (0603 (1608M) Resistor)
pins: 1, 2

## 0603WAF2200T5E
designator R?  Resistance: 220Ω  (hidden comment: *)
Resistor, 220Ω, ±1%, 100mW, 75V, ±100ppm/°C, -55°C to +155°C, SMD 0603; Manufacturer: Uniroyal; Manufacturer Part Number: 0603WAF2200T5E; Supplier 1: LCSC; Supplier Part Number 1: C22962; JLCPCB Part Number: C22962; Power Rating: 100mW; Category: Resistors; Package Size: 0603; JLCPCB Basic Part: Yes; Tolerance: ±1%; Voltage Rating: 75V; Temperature Coefficient: ±100ppm/°C; Temperature Rating: -55°C to +155°C; ComponentLink1Description: Datasheet; ComponentLink1URL: https://datasheet.lcsc.com/lcsc/2206010130_UNI-ROYAL-Uniroyal-Elec-0603WAF2200T5E_C22962.pdf; ComponentLink2Description: JLCPCB Part URL; ComponentLink2URL: https://jlcpcb.com/partdetail/23689-0603WAF2200T5E/C22962
footprint RES-0603 (0603 (1608M) Resistor)
pins: 1, 2

## 0603WAF2201T5E
designator R?  Resistance: 2.2kΩ  (hidden comment: *)
Resistor, 2.2kΩ, ±1%, 100mW, 75V, ±100ppm/°C, -55°C to +155°C, SMD 0603; Manufacturer: Uniroyal; Manufacturer Part Number: 0603WAF2201T5E; Supplier 1: LCSC; Supplier Part Number 1: C4190; JLCPCB Part Number: C4190; Power Rating: 100mW; Category: Resistors; Package Size: 0603; JLCPCB Basic Part: Yes; Tolerance: ±1%; Voltage Rating: 75V; Temperature Coefficient: ±100ppm/°C; Temperature Rating: -55°C to +155°C; ComponentLink1Description: Datasheet; ComponentLink1URL: https://datasheet.lcsc.com/lcsc/2206010230_UNI-ROYAL-Uniroyal-Elec-0603WAF2201T5E_C4190.pdf; ComponentLink2Description: JLCPCB Part URL; ComponentLink2URL: https://jlcpcb.com/partdetail/4597-0603WAF2201T5E/C4190
footprint RES-0603 (0603 (1608M) Resistor)
pins: 1, 2

## 0603WAF2202T5E
designator R?  Resistance: 22kΩ  (hidden comment: *)
Resistor, 22kΩ, ±1%, 100mW, 75V, ±100ppm/°C, -55°C to +155°C, SMD 0603; Manufacturer: Uniroyal; Manufacturer Part Number: 0603WAF2202T5E; Supplier 1: LCSC; Supplier Part Number 1: C31850; JLCPCB Part Number: C31850; Power Rating: 100mW; Category: Resistors; Package Size: 0603; JLCPCB Basic Part: Yes; Tolerance: ±1%; Voltage Rating: 75V; Temperature Coefficient: ±100ppm/°C; Temperature Rating: -55°C to +155°C; ComponentLink1Description: Datasheet; ComponentLink1URL: https://datasheet.lcsc.com/lcsc/2206010030_UNI-ROYAL-Uniroyal-Elec-0603WAF2202T5E_C31850.pdf; ComponentLink2Description: JLCPCB Part URL; ComponentLink2URL: https://jlcpcb.com/partdetail/32812-0603WAF2202T5E/C31850
footprint RES-0603 (0603 (1608M) Resistor)
pins: 1, 2

## 0603WAF2203T5E
designator R?  Resistance: 220kΩ  (hidden comment: *)
Resistor, 220kΩ, ±1%, 100mW, 75V, ±100ppm/°C, -55°C to +155°C, SMD 0603; Manufacturer: Uniroyal; Manufacturer Part Number: 0603WAF2203T5E; Supplier 1: LCSC; Supplier Part Number 1: C22961; JLCPCB Part Number: C22961; Power Rating: 100mW; Category: Resistors; Package Size: 0603; JLCPCB Basic Part: Yes; Tolerance: ±1%; Voltage Rating: 75V; Temperature Coefficient: ±100ppm/°C; Temperature Rating: -55°C to +155°C; ComponentLink1Description: Datasheet; ComponentLink1URL: https://datasheet.lcsc.com/lcsc/2206010130_UNI-ROYAL-Uniroyal-Elec-0603WAF2203T5E_C22961.pdf; ComponentLink2Description: JLCPCB Part URL; ComponentLink2URL: https://jlcpcb.com/partdetail/23688-0603WAF2203T5E/C22961
footprint RES-0603 (0603 (1608M) Resistor)
pins: 1, 2

## 0603WAF2204T5E
designator R?  Resistance: 2.2MΩ  (hidden comment: *)
Resistor, 2.2MΩ, ±1%, 100mW, 75V, ±100ppm/°C, -55°C to +155°C, SMD 0603; Manufacturer: Uniroyal; Manufacturer Part Number: 0603WAF2204T5E; Supplier 1: LCSC; Supplier Part Number 1: C22938; JLCPCB Part Number: C22938; Power Rating: 100mW; Category: Resistors; Package Size: 0603; JLCPCB Basic Part: Yes; Tolerance: ±1%; Voltage Rating: 75V; Temperature Coefficient: ±100ppm/°C; Temperature Rating: -55°C to +155°C; ComponentLink1Description: Datasheet; ComponentLink1URL: https://datasheet.lcsc.com/lcsc/2206010130_UNI-ROYAL-Uniroyal-Elec-0603WAF2204T5E_C22938.pdf; ComponentLink2Description: JLCPCB Part URL; ComponentLink2URL: https://jlcpcb.com/partdetail/23665-0603WAF2204T5E/C22938
footprint RES-0603 (0603 (1608M) Resistor)
pins: 1, 2

## 0603WAF2401T5E
designator R?  Resistance: 2.4kΩ  (hidden comment: *)
Resistor, 2.4kΩ, ±1%, 100mW, 75V, ±100ppm/°C, -55°C to +155°C, SMD 0603; Manufacturer: Uniroyal; Manufacturer Part Number: 0603WAF2401T5E; Supplier 1: LCSC; Supplier Part Number 1: C22940; JLCPCB Part Number: C22940; Power Rating: 100mW; Category: Resistors; Package Size: 0603; JLCPCB Basic Part: Yes; Tolerance: ±1%; Voltage Rating: 75V; Temperature Coefficient: ±100ppm/°C; Temperature Rating: -55°C to +155°C; ComponentLink1Description: Datasheet; ComponentLink1URL: https://datasheet.lcsc.com/lcsc/2206010130_UNI-ROYAL-Uniroyal-Elec-0603WAF2401T5E_C22940.pdf; ComponentLink2Description: JLCPCB Part URL; ComponentLink2URL: https://jlcpcb.com/partdetail/23667-0603WAF2401T5E/C22940
footprint RES-0603 (0603 (1608M) Resistor)
pins: 1, 2

## 0603WAF2402T5E
designator R?  Resistance: 24kΩ  (hidden comment: *)
Resistor, 24kΩ, ±1%, 100mW, 75V, ±100ppm/°C, -55°C to +155°C, SMD 0603; Manufacturer: Uniroyal; Manufacturer Part Number: 0603WAF2402T5E; Supplier 1: LCSC; Supplier Part Number 1: C23352; JLCPCB Part Number: C23352; Power Rating: 100mW; Category: Resistors; Package Size: 0603; JLCPCB Basic Part: Yes; Tolerance: ±1%; Voltage Rating: 75V; Temperature Coefficient: ±100ppm/°C; Temperature Rating: -55°C to +155°C; ComponentLink1Description: Datasheet; ComponentLink1URL: https://datasheet.lcsc.com/lcsc/2206010100_UNI-ROYAL-Uniroyal-Elec-0603WAF2402T5E_C23352.pdf; ComponentLink2Description: JLCPCB Part URL; ComponentLink2URL: https://jlcpcb.com/partdetail/24085-0603WAF2402T5E/C23352
footprint RES-0603 (0603 (1608M) Resistor)
pins: 1, 2

## 0603WAF2403T5E
designator R?  Resistance: 240kΩ  (hidden comment: *)
Resistor, 240kΩ, ±1%, 100mW, 75V, ±100ppm/°C, -55°C to +155°C, SMD 0603; Manufacturer: Uniroyal; Manufacturer Part Number: 0603WAF2403T5E; Supplier 1: LCSC; Supplier Part Number 1: C4197; JLCPCB Part Number: C4197; Power Rating: 100mW; Category: Resistors; Package Size: 0603; JLCPCB Basic Part: Yes; Tolerance: ±1%; Voltage Rating: 75V; Temperature Coefficient: ±100ppm/°C; Temperature Rating: -55°C to +155°C; ComponentLink1Description: Datasheet; ComponentLink1URL: https://datasheet.lcsc.com/lcsc/2206010230_UNI-ROYAL-Uniroyal-Elec-0603WAF2403T5E_C4197.pdf; ComponentLink2Description: JLCPCB Part URL; ComponentLink2URL: https://jlcpcb.com/partdetail/4604-0603WAF2403T5E/C4197
footprint RES-0603 (0603 (1608M) Resistor)
pins: 1, 2

## 0603WAF2700T5E
designator R?  Resistance: 270Ω  (hidden comment: *)
Resistor, 270Ω, ±1%, 100mW, 75V, ±100ppm/°C, -55°C to +155°C, SMD 0603; Manufacturer: Uniroyal; Manufacturer Part Number: 0603WAF2700T5E; Supplier 1: LCSC; Supplier Part Number 1: C22966; JLCPCB Part Number: C22966; Power Rating: 100mW; Category: Resistors; Package Size: 0603; JLCPCB Basic Part: Yes; Tolerance: ±1%; Voltage Rating: 75V; Temperature Coefficient: ±100ppm/°C; Temperature Rating: -55°C to +155°C; ComponentLink1Description: Datasheet; ComponentLink1URL: https://datasheet.lcsc.com/lcsc/2206010130_UNI-ROYAL-Uniroyal-Elec-0603WAF2700T5E_C22966.pdf; ComponentLink2Description: JLCPCB Part URL; ComponentLink2URL: https://jlcpcb.com/partdetail/23693-0603WAF2700T5E/C22966
footprint RES-0603 (0603 (1608M) Resistor)
pins: 1, 2

## 0603WAF2701T5E
designator R?  Resistance: 2.7kΩ  (hidden comment: *)
Resistor, 2.7kΩ, ±1%, 100mW, 75V, ±100ppm/°C, -55°C to +155°C, SMD 0603; Manufacturer: Uniroyal; Manufacturer Part Number: 0603WAF2701T5E; Supplier 1: LCSC; Supplier Part Number 1: C13167; JLCPCB Part Number: C13167; Power Rating: 100mW; Category: Resistors; Package Size: 0603; JLCPCB Basic Part: Yes; Tolerance: ±1%; Voltage Rating: 75V; Temperature Coefficient: ±100ppm/°C; Temperature Rating: -55°C to +155°C; ComponentLink1Description: Datasheet; ComponentLink1URL: https://datasheet.lcsc.com/lcsc/2206010216_UNI-ROYAL-Uniroyal-Elec-0603WAF2701T5E_C13167.pdf; ComponentLink2Description: JLCPCB Part URL; ComponentLink2URL: https://jlcpcb.com/partdetail/13814-0603WAF2701T5E/C13167
footprint RES-0603 (0603 (1608M) Resistor)
pins: 1, 2

## 0603WAF2702T5E
designator R?  Resistance: 27kΩ  (hidden comment: *)
Resistor, 27kΩ, ±1%, 100mW, 75V, ±100ppm/°C, -55°C to +155°C, SMD 0603; Manufacturer: Uniroyal; Manufacturer Part Number: 0603WAF2702T5E; Supplier 1: LCSC; Supplier Part Number 1: C22967; JLCPCB Part Number: C22967; Power Rating: 100mW; Category: Resistors; Package Size: 0603; JLCPCB Basic Part: Yes; Tolerance: ±1%; Voltage Rating: 75V; Temperature Coefficient: ±100ppm/°C; Temperature Rating: -55°C to +155°C; ComponentLink1Description: Datasheet; ComponentLink1URL: https://datasheet.lcsc.com/lcsc/2206010130_UNI-ROYAL-Uniroyal-Elec-0603WAF2702T5E_C22967.pdf; ComponentLink2Description: JLCPCB Part URL; ComponentLink2URL: https://jlcpcb.com/partdetail/23694-0603WAF2702T5E/C22967
footprint RES-0603 (0603 (1608M) Resistor)
pins: 1, 2

## 0603WAF2703T5E
designator R?  Resistance: 270kΩ  (hidden comment: *)
Resistor, 270kΩ, ±1%, 100mW, 75V, ±100ppm/°C, -55°C to +155°C, SMD 0603; Manufacturer: Uniroyal; Manufacturer Part Number: 0603WAF2703T5E; Supplier 1: LCSC; Supplier Part Number 1: C22965; JLCPCB Part Number: C22965; Power Rating: 100mW; Category: Resistors; Package Size: 0603; JLCPCB Basic Part: Yes; Tolerance: ±1%; Voltage Rating: 75V; Temperature Coefficient: ±100ppm/°C; Temperature Rating: -55°C to +155°C; ComponentLink1Description: Datasheet; ComponentLink1URL: https://datasheet.lcsc.com/lcsc/2206010130_UNI-ROYAL-Uniroyal-Elec-0603WAF2703T5E_C22965.pdf; ComponentLink2Description: JLCPCB Part URL; ComponentLink2URL: https://jlcpcb.com/partdetail/23692-0603WAF2703T5E/C22965
footprint RES-0603 (0603 (1608M) Resistor)
pins: 1, 2

## 0603WAF3000T5E
designator R?  Resistance: 300Ω  (hidden comment: *)
Resistor, 300Ω, ±1%, 100mW, 75V, ±100ppm/°C, -55°C to +155°C, SMD 0603; Manufacturer: Uniroyal; Manufacturer Part Number: 0603WAF3000T5E; Supplier 1: LCSC; Supplier Part Number 1: C23025; JLCPCB Part Number: C23025; Power Rating: 100mW; Category: Resistors; Package Size: 0603; JLCPCB Basic Part: Yes; Tolerance: ±1%; Voltage Rating: 75V; Temperature Coefficient: ±100ppm/°C; Temperature Rating: -55°C to +155°C; ComponentLink1Description: Datasheet; ComponentLink1URL: https://datasheet.lcsc.com/lcsc/2206010116_UNI-ROYAL-Uniroyal-Elec-0603WAF3000T5E_C23025.pdf; ComponentLink2Description: JLCPCB Part URL; ComponentLink2URL: https://jlcpcb.com/partdetail/23752-0603WAF3000T5E/C23025
footprint RES-0603 (0603 (1608M) Resistor)
pins: 1, 2

## 0603WAF3001T5E
designator R?  Resistance: 3kΩ  (hidden comment: *)
Resistor, 3kΩ, ±1%, 100mW, 75V, ±100ppm/°C, -55°C to +155°C, SMD 0603; Manufacturer: Uniroyal; Manufacturer Part Number: 0603WAF3001T5E; Supplier 1: LCSC; Supplier Part Number 1: C4211; JLCPCB Part Number: C4211; Power Rating: 100mW; Category: Resistors; Package Size: 0603; JLCPCB Basic Part: Yes; Tolerance: ±1%; Voltage Rating: 75V; Temperature Coefficient: ±100ppm/°C; Temperature Rating: -55°C to +155°C; ComponentLink1Description: Datasheet; ComponentLink1URL: https://datasheet.lcsc.com/lcsc/2206010230_UNI-ROYAL-Uniroyal-Elec-0603WAF3001T5E_C4211.pdf; ComponentLink2Description: JLCPCB Part URL; ComponentLink2URL: https://jlcpcb.com/partdetail/4618-0603WAF3001T5E/C4211
footprint RES-0603 (0603 (1608M) Resistor)
pins: 1, 2

## 0603WAF3002T5E
designator R?  Resistance: 30kΩ  (hidden comment: *)
Resistor, 30kΩ, ±1%, 100mW, 75V, ±100ppm/°C, -55°C to +155°C, SMD 0603; Manufacturer: Uniroyal; Manufacturer Part Number: 0603WAF3002T5E; Supplier 1: LCSC; Supplier Part Number 1: C22984; JLCPCB Part Number: C22984; Power Rating: 100mW; Category: Resistors; Package Size: 0603; JLCPCB Basic Part: Yes; Tolerance: ±1%; Voltage Rating: 75V; Temperature Coefficient: ±100ppm/°C; Temperature Rating: -55°C to +155°C; ComponentLink1Description: Datasheet; ComponentLink1URL: https://datasheet.lcsc.com/lcsc/2206010116_UNI-ROYAL-Uniroyal-Elec-0603WAF3002T5E_C22984.pdf; ComponentLink2Description: JLCPCB Part URL; ComponentLink2URL: https://jlcpcb.com/partdetail/23711-0603WAF3002T5E/C22984
footprint RES-0603 (0603 (1608M) Resistor)
pins: 1, 2

## 0603WAF3003T5E
designator R?  Resistance: 300kΩ  (hidden comment: *)
Resistor, 300kΩ, ±1%, 100mW, 75V, ±100ppm/°C, -55°C to +155°C, SMD 0603; Manufacturer: Uniroyal; Manufacturer Part Number: 0603WAF3003T5E; Supplier 1: LCSC; Supplier Part Number 1: C23024; JLCPCB Part Number: C23024; Power Rating: 100mW; Category: Resistors; Package Size: 0603; JLCPCB Basic Part: Yes; Tolerance: ±1%; Voltage Rating: 75V; Temperature Coefficient: ±100ppm/°C; Temperature Rating: -55°C to +155°C; ComponentLink1Description: Datasheet; ComponentLink1URL: https://datasheet.lcsc.com/lcsc/2206010116_UNI-ROYAL-Uniroyal-Elec-0603WAF3003T5E_C23024.pdf; ComponentLink2Description: JLCPCB Part URL; ComponentLink2URL: https://jlcpcb.com/partdetail/23751-0603WAF3003T5E/C23024
footprint RES-0603 (0603 (1608M) Resistor)
pins: 1, 2

## 0603WAF3300T5E
designator R?  Resistance: 330Ω  (hidden comment: *)
Resistor, 330Ω, ±1%, 100mW, 75V, ±100ppm/°C, -55°C to +155°C, SMD 0603; Manufacturer: Uniroyal; Manufacturer Part Number: 0603WAF3300T5E; Supplier 1: LCSC; Supplier Part Number 1: C23138; JLCPCB Part Number: C23138; Power Rating: 100mW; Category: Resistors; Package Size: 0603; JLCPCB Basic Part: Yes; Tolerance: ±1%; Voltage Rating: 75V; Temperature Coefficient: ±100ppm/°C; Temperature Rating: -55°C to +155°C; ComponentLink1Description: Datasheet; ComponentLink1URL: https://datasheet.lcsc.com/lcsc/2206010116_UNI-ROYAL-Uniroyal-Elec-0603WAF3300T5E_C23138.pdf; ComponentLink2Description: JLCPCB Part URL; ComponentLink2URL: https://jlcpcb.com/partdetail/23865-0603WAF3300T5E/C23138
footprint RES-0603 (0603 (1608M) Resistor)
pins: 1, 2

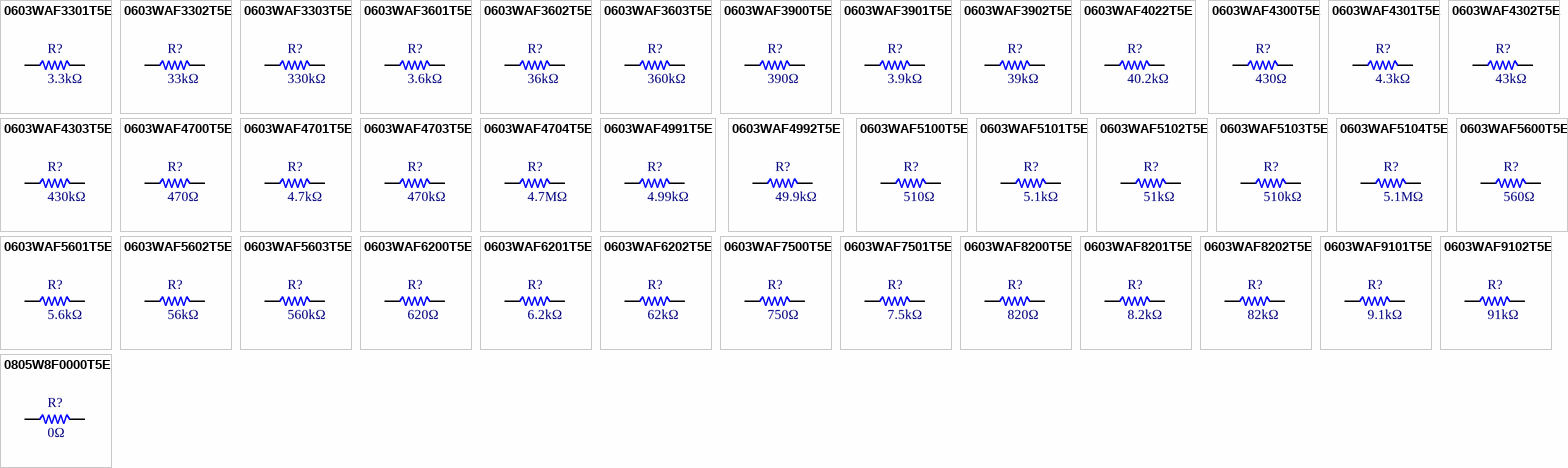
[diagram p3: symbols 0603WAF3301T5E to 0805W8F0000T5E]

## 0603WAF3301T5E
designator R?  Resistance: 3.3kΩ  (hidden comment: *)
Resistor, 3.3kΩ, ±1%, 100mW, 75V, ±100ppm/°C, -55°C to +155°C, SMD 0603; Manufacturer: Uniroyal; Manufacturer Part Number: 0603WAF3301T5E; Supplier 1: LCSC; Supplier Part Number 1: C22978; JLCPCB Part Number: C22978; Power Rating: 100mW; Category: Resistors; Package Size: 0603; JLCPCB Basic Part: Yes; Tolerance: ±1%; Voltage Rating: 75V; Temperature Coefficient: ±100ppm/°C; Temperature Rating: -55°C to +155°C; ComponentLink1Description: Datasheet; ComponentLink1URL: https://datasheet.lcsc.com/lcsc/2206010116_UNI-ROYAL-Uniroyal-Elec-0603WAF3301T5E_C22978.pdf; ComponentLink2Description: JLCPCB Part URL; ComponentLink2URL: https://jlcpcb.com/partdetail/23705-0603WAF3301T5E/C22978
footprint RES-0603 (0603 (1608M) Resistor)
pins: 1, 2

## 0603WAF3302T5E
designator R?  Resistance: 33kΩ  (hidden comment: *)
Resistor, 33kΩ, ±1%, 100mW, 75V, ±100ppm/°C, -55°C to +155°C, SMD 0603; Manufacturer: Uniroyal; Manufacturer Part Number: 0603WAF3302T5E; Supplier 1: LCSC; Supplier Part Number 1: C4216; JLCPCB Part Number: C4216; Power Rating: 100mW; Category: Resistors; Package Size: 0603; JLCPCB Basic Part: Yes; Tolerance: ±1%; Voltage Rating: 75V; Temperature Coefficient: ±100ppm/°C; Temperature Rating: -55°C to +155°C; ComponentLink1Description: Datasheet; ComponentLink1URL: https://datasheet.lcsc.com/lcsc/2206010230_UNI-ROYAL-Uniroyal-Elec-0603WAF3302T5E_C4216.pdf; ComponentLink2Description: JLCPCB Part URL; ComponentLink2URL: https://jlcpcb.com/partdetail/4623-0603WAF3302T5E/C4216
footprint RES-0603 (0603 (1608M) Resistor)
pins: 1, 2